# Altium schematic symbol library 0.1uF 275VAC cap.SchLib: 1 symbol
Pins are listed as number, name and electrical type; pins without a type are passive.

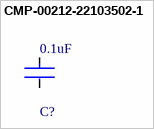
[diagram p0: symbol CMP-00212-22103502-1]

## CMP-00212-22103502-1
designator C?, comment 0.1uF
R46KF310040P1M Film Capacitor, Polypropylene, 560V, 20% +Tol, 20% -Tol, 0.1uF, Through Hole Mount; NexarPartId: 22103502; Dielectric Material: PP; Voltage Rating (AC): 275V; Capacitance: 100nF; Lead Diameter: 600µm; Min Operating Temperature: -40°C; Height - Seated (Max): 12.0904mm; Mount: Through Hole; Lead Pitch: 10mm; REACH SVHC: No SVHC; Depth: 5mm; Height: 6mm; RoHS: Compliant; Tolerance: 20%; Voltage Rating: 560V; Max Operating Temperature: 110°C; Termination: Radial; Case/Package: Radial; Packaging: Bulk; Voltage Rating (DC): 560V; Width: 5.9944mm; Length: 13mm; Schedule B: 8532250010; Dielectric: PP
footprint FP-R46KF310040P1M-MFG
pins: 1, 2